# EAGLE library part LM2575 (library IC)
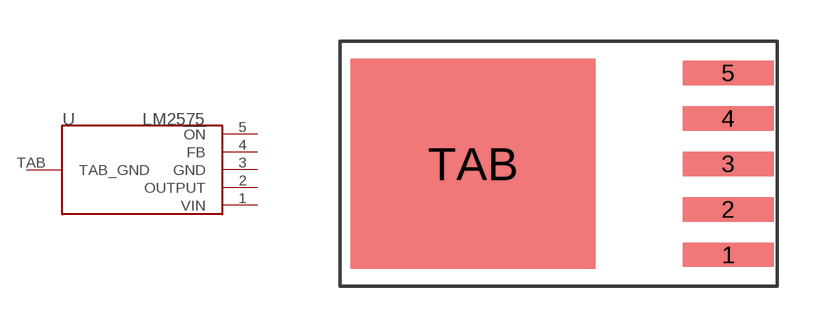
[diagram p61: symbol with the pads of TO-263; footprint TO-263]

Designator prefix U

## LM2575  [TO-263]
1  VIN
2  OUTPUT
3  GND
4  FB
5  !ON
TAB  TAB_GND

## Footprint TO-263 (pad centres in mm)
smd 3.302 x 0.889: 1 3.302,-3.302; 2 3.302,-1.651; 3 3.302,0; 4 3.302,1.651; 5 3.302,3.302
smd 8.89 x 7.62: TAB -5.969,0